# Altium footprint library Quatro_PcbLib.PcbLib: 46 footprints (part 3 of 3)
Each footprint in its own frame and in the unit in brackets; x right, y up, seen from the top. Pads: shape width x height; smd on the part's side, far side on the other; paste and mask are expansions set on the pad; w line width, h text height; cw(c..) or ccw(c..) is an arc to the next point about the centre after c.
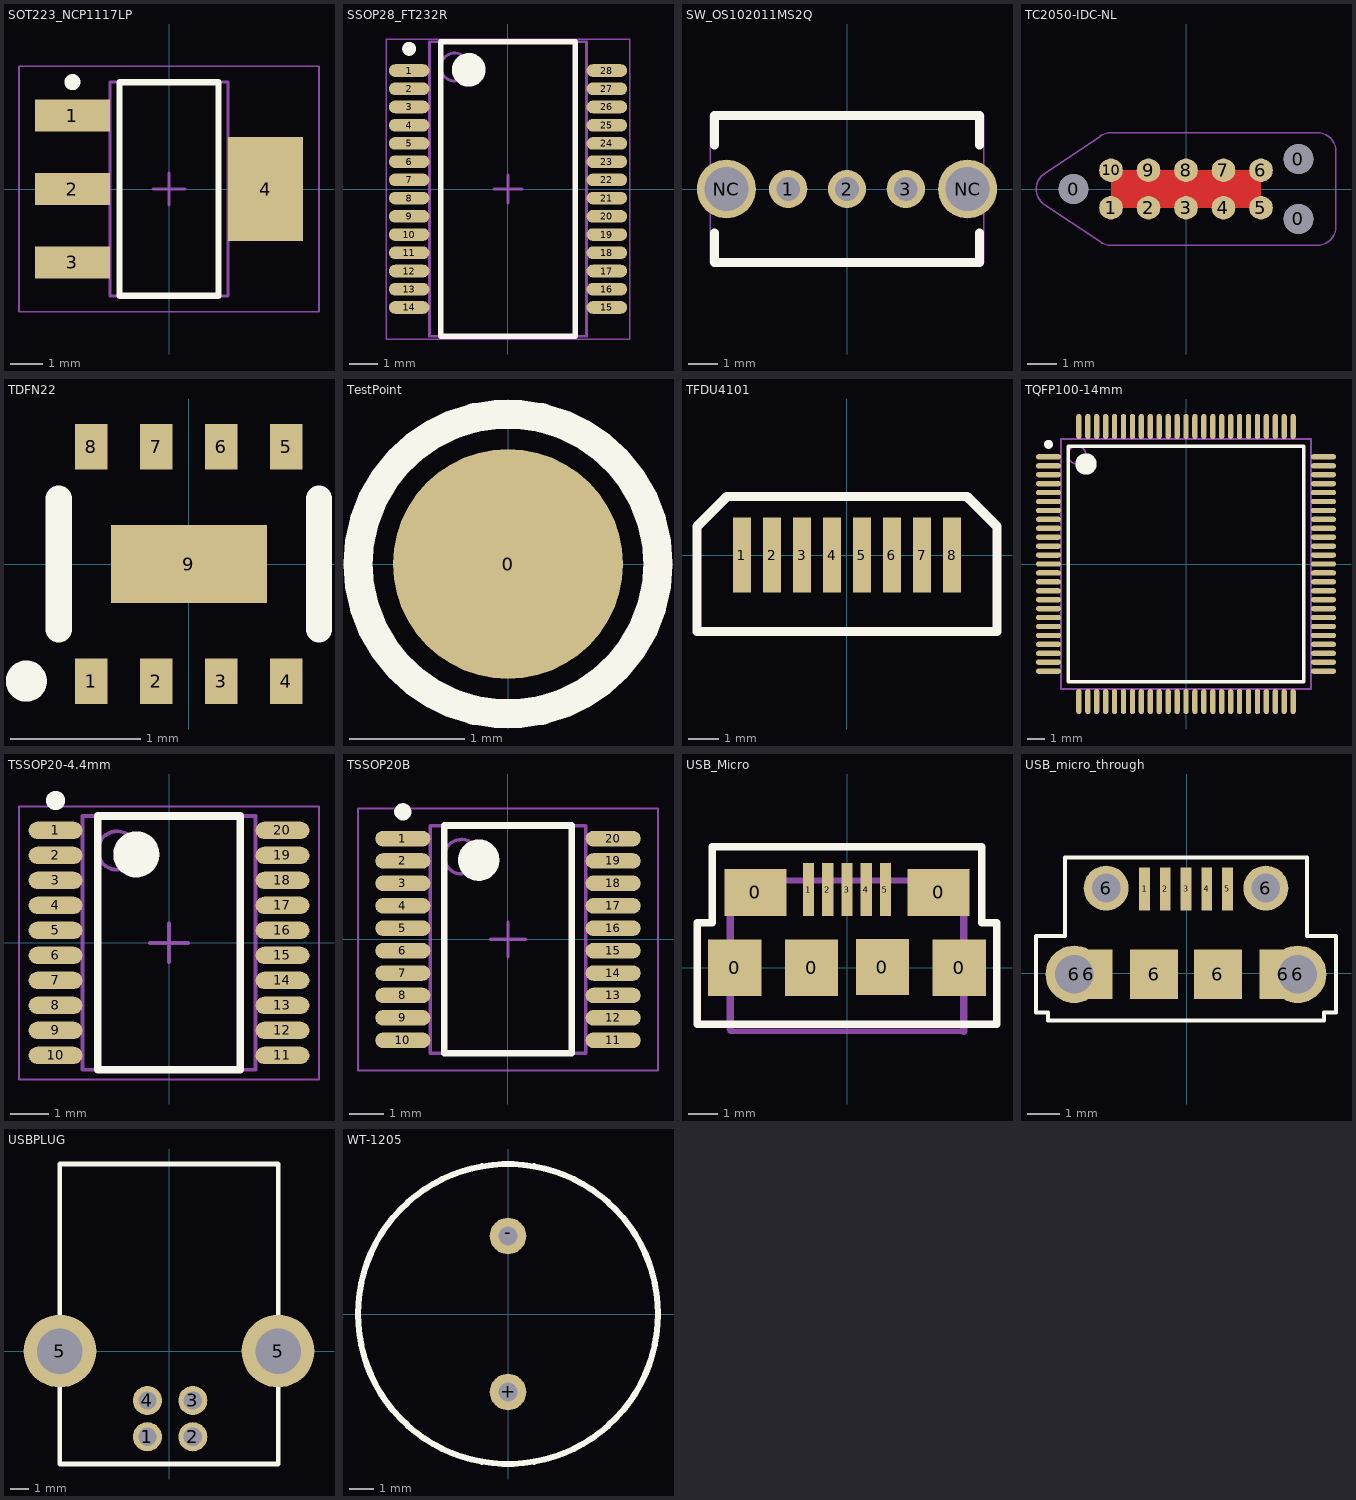
[diagram p2: the footprints below, top view; thin cyan lines are the x and y axes]

## SOT223_NCP1117LP [mm] "SOT223, 4-Leads, Body 6.50x7.00mm (avg), Pitch 2.30mm, IPC Low Density,NCP1117LP"
height 1.8
pads (4):
  rect 2.35x1 smd: 1(-3.025,2.3) 2(-3.025,0) 3(-3.025,-2.3)
  rect 2.35x3.25 smd: 4(3.025,0)
Top Overlay:
  circle w0.25: c-3.025,3.35 r0.125
  lines w0.2: -1.55,-3.35 1.55,-3.35 1.55,3.35 -1.55,3.35 -1.55,-3.35
Mechanical 13:
  lines w0.1: -1.85,-3.35 1.85,-3.35 1.85,3.35 -1.85,3.35 -1.85,-3.35
Mechanical 15:
  lines w0.05: -4.7,-3.85 4.7,-3.85 4.7,3.85 -4.7,3.85 -4.7,-3.85
  lines w0.1: -0.5,0 0.5,0 ; 0,-0.5 0,0.5
3D body "SOT223_NCP1117LP.step": height 1.8, standoff 0, extent -3.5,-3.35 3.5,3.35

## SSOP28_FT232R [mm] "SOP, 28-Leads, Body 10.20x5.30mm, Pitch 0.65mm, IPC High Density"
height 2
pads (28):
  oval 1.45x0.45 smd: 1(-3.525,4.225) 2(-3.525,3.575) 3(-3.525,2.925) 4(-3.525,2.275) 5(-3.525,1.625) 6(-3.525,0.975) 7(-3.525,0.325) 8(-3.525,-0.325) 9(-3.525,-0.975) 10(-3.525,-1.625) 11(-3.525,-2.275) 12(-3.525,-2.925) 13(-3.525,-3.575) 14(-3.525,-4.225) 15(3.525,-4.225) 16(3.525,-3.575) 17(3.525,-2.925) 18(3.525,-2.275) 19(3.525,-1.625) 20(3.525,-0.975) 21(3.525,-0.325) 22(3.525,0.325) 23(3.525,0.975) 24(3.525,1.625) 25(3.525,2.275) 26(3.525,2.925) 27(3.525,3.575) 28(3.525,4.225)
Top Overlay:
  circle w0.25: c-3.525,5 r0.125
  circle w0.6: c-1.4,4.25 r0.3
  lines w0.2: -2.4,-5.25 -2.4,5.25 2.4,5.25 2.4,-5.25 -2.4,-5.25
Mechanical 13:
  circle w0.1: c-1.9,4.35 r0.5
  lines w0.1: -2.8,-5.25 -2.8,5.25 2.8,5.25 2.8,-5.25 -2.8,-5.25
Mechanical 15:
  lines w0.05: -4.35,-5.35 -4.35,5.35 4.35,5.35 4.35,-5.35 -4.35,-5.35
  lines w0.1: -0.5,0 0.5,0 ; 0,-0.5 0,0.5
3D body "SSOP28_FT232R.step": height 2, standoff 0, extent -3.9,-5.25 3.9,5.25

## SW_OS102011MS2Q [mm]
pads (5):
  round 1.3 hole 0.8: 1(-2,0) 2(0,0) 3(2,0)
  round 2 hole 1.5: NC(-4.1,0) NC(4.1,0)
Top Overlay:
  lines w0.3: -4.5,-1.5 -4.5,-2.5 4.5,-2.5 4.5,-1.5 ; -4.5,1.5 -4.5,2.5 4.5,2.5 4.5,1.5
Mechanical 15:
  lines w0.05: -4.65,-2.5 -4.65,2.5 4.65,2.5 4.65,-2.5 -4.65,-2.5
3D body: height 8, standoff 0, extent 1,-1 3,1
3D body: height 4, standoff 0, extent -4.3,-2.15 4.275,2.125

## TC2050-IDC-NL [mm]
pads (13):
  round 1 hole 1 unplated paste-1.1: 0(-3.81,0) 0(3.81,-1.016) 0(3.81,1.016)
  round 0.8 smd paste-0.41: 1(-2.54,-0.635) 2(-1.27,-0.635) 3(0,-0.635) 4(1.27,-0.635) 5(2.54,-0.635) 6(2.54,0.635) 7(1.27,0.635) 8(0,0.635) 9(-1.27,0.635) 10(-2.54,0.635)
Top Layer:
  pour cut-out: -2.54,0.635 2.54,0.635 2.54,-0.635 -2.54,-0.635
Mechanical 15:
  lines w0.05: -4.826,-0.508 cw(c-4.445,0) -4.826,0.508 -2.921,1.778 cw(c-2.54,1.27) -2.54,1.905 4.445,1.905 cw(c4.445,1.27) 5.08,1.27 5.08,-1.27 cw(c4.445,-1.27) 4.445,-1.905 -2.54,-1.905 cw(c-2.54,-1.27) -2.921,-1.778 -4.826,-0.508

## TDFN22 [mm] "2mm x 2mm TDFN"
height 0.55
pads (9):
  rect 0.25x0.35 smd: 1(-0.75,-0.9) 2(-0.25,-0.9) 3(0.25,-0.9) 4(0.75,-0.9) 5(0.75,0.9) 6(0.25,0.9) 7(-0.25,0.9) 8(-0.75,0.9)
  rect 1.2x0.6 smd: 9(0,0)
Top Overlay:
  circle w0.203: c-1.25,-0.9 r0.056
  lines w0.203: -1,-0.5 -1,0.5 ; 1,-0.5 1,0.5
3D body: height 0.56, standoff 0.55, extent -0.775,-0.775 -0.575,-0.575
3D body: height 0.55, standoff 0, extent -1,-1 1,1

## TestPoint [mm] "Test Point"
pads (1):
  round 2 smd: 0(0,0)
Top Overlay:
  circle w0.254: c0,0 r1.304

## TFDU4101 [mm]
pads (8):
  rect 0.6x2.5 smd: 1(-3.5,0) 2(-2.5,0) 3(-1.5,0) 4(-0.5,0) 5(0.5,0) 6(1.5,0) 7(2.5,0) 8(3.5,0)
Top Overlay:
  lines w0.3: -5,-2.55 5,-2.55 5,0.95 4,1.95 -4,1.95 -5,0.95 -5,-2.55
3D body "84407TFDU4101.stp": height 4.09, standoff -0.01, extent -4.95,-3.75 4.95,0.95

## TQFP100-14mm [mm] "TSQFP, 100-Leads, Body 14,00x14,00mm, Pitch 0,50mm, IPC Medium Density"
height 1.2
pads (100):
  oval 1.4x0.3 smd: 1(-7.7,6) 2(-7.7,5.5) 3(-7.7,5) 4(-7.7,4.5) 5(-7.7,4) 6(-7.7,3.5) 7(-7.7,3) 8(-7.7,2.5) 9(-7.7,2) 10(-7.7,1.5) 11(-7.7,1) 12(-7.7,0.5) 13(-7.7,0) 14(-7.7,-0.5) 15(-7.7,-1) 16(-7.7,-1.5) 17(-7.7,-2) 18(-7.7,-2.5) 19(-7.7,-3) 20(-7.7,-3.5) 21(-7.7,-4) 22(-7.7,-4.5) 23(-7.7,-5) 24(-7.7,-5.5) 25(-7.7,-6) 51(7.7,-6) 52(7.7,-5.5) 53(7.7,-5) 54(7.7,-4.5) 55(7.7,-4) 56(7.7,-3.5) 57(7.7,-3) 58(7.7,-2.5) 59(7.7,-2) 60(7.7,-1.5) 61(7.7,-1) 62(7.7,-0.5) 63(7.7,0) 64(7.7,0.5) 65(7.7,1) 66(7.7,1.5) 67(7.7,2) 68(7.7,2.5) 69(7.7,3) 70(7.7,3.5) 71(7.7,4) 72(7.7,4.5) 73(7.7,5) 74(7.7,5.5) 75(7.7,6)
  oval 0.3x1.4 smd: 26(-6,-7.7) 27(-5.5,-7.7) 28(-5,-7.7) 29(-4.5,-7.7) 30(-4,-7.7) 31(-3.5,-7.7) 32(-3,-7.7) 33(-2.5,-7.7) 34(-2,-7.7) 35(-1.5,-7.7) 36(-1,-7.7) 37(-0.5,-7.7) 38(0,-7.7) 39(0.5,-7.7) 40(1,-7.7) 41(1.5,-7.7) 42(2,-7.7) 43(2.5,-7.7) 44(3,-7.7) 45(3.5,-7.7) 46(4,-7.7) 47(4.5,-7.7) 48(5,-7.7) 49(5.5,-7.7) 50(6,-7.7) 76(6,7.7) 77(5.5,7.7) 78(5,7.7) 79(4.5,7.7) 80(4,7.7) 81(3.5,7.7) 82(3,7.7) 83(2.5,7.7) 84(2,7.7) 85(1.5,7.7) 86(1,7.7) 87(0.5,7.7) 88(0,7.7) 89(-0.5,7.7) 90(-1,7.7) 91(-1.5,7.7) 92(-2,7.7) 93(-2.5,7.7) 94(-3,7.7) 95(-3.5,7.7) 96(-4,7.7) 97(-4.5,7.7) 98(-5,7.7) 99(-5.5,7.7) 100(-6,7.7)
Top Overlay:
  circle w0.6: c-5.6,5.6 r0.3
  circle w0.25: c-7.7,6.7 r0.125
  lines w0.2: -6.6,-6.6 6.6,-6.6 6.6,6.6 -6.6,6.6 -6.6,-6.6
Mechanical 13:
  circle w0.1: c-6.1,6.1 r0.5
  lines w0.1: -7,-7 7,-7 7,7 -7,7 -7,-7
3D body "TSQFP50P1600X1600X120-100N.step": height 1.2, standoff 0, extent -8,-8 8,8

## TSSOP20-4.4mm [mm] "TSOP, 20-Leads, Body 6.50x4.40mm, Pitch 0.65mm, IPC Medium Density"
height 1.2
pads (20):
  oval 1.4x0.45 smd: 1(-2.95,2.925) 2(-2.95,2.275) 3(-2.95,1.625) 4(-2.95,0.975) 5(-2.95,0.325) 6(-2.95,-0.325) 7(-2.95,-0.975) 8(-2.95,-1.625) 9(-2.95,-2.275) 10(-2.95,-2.925) 11(2.95,-2.925) 12(2.95,-2.275) 13(2.95,-1.625) 14(2.95,-0.975) 15(2.95,-0.325) 16(2.95,0.325) 17(2.95,0.975) 18(2.95,1.625) 19(2.95,2.275) 20(2.95,2.925)
Top Overlay:
  circle w0.6: c-0.85,2.3 r0.3
  circle w0.25: c-2.95,3.7 r0.125
  lines w0.2: -1.85,-3.3 1.85,-3.3 1.85,3.3 -1.85,3.3 -1.85,-3.3
Mechanical 13:
  circle w0.1: c-1.35,2.4 r0.5
  lines w0.1: -2.25,-3.3 2.25,-3.3 2.25,3.3 -2.25,3.3 -2.25,-3.3
Mechanical 15:
  lines w0.05: -3.9,-3.55 3.9,-3.55 3.9,3.55 -3.9,3.55 -3.9,-3.55
  lines w0.1: -0.5,0 0.5,0 ; 0,-0.5 0,0.5
3D body "TSOP65P640X120-20N.step": height 1.2, standoff 0, extent -3.2,-3.3 3.2,3.3

## TSSOP20B [mm] "TSOP, 20-Leads, Body 6,50x4,40mm, Pitch 0,65mm, IPC Low Density"
height 1.2
pads (20):
  oval 1.6x0.45 smd: 1(-3.05,2.925) 2(-3.05,2.275) 3(-3.05,1.625) 4(-3.05,0.975) 5(-3.05,0.325) 6(-3.05,-0.325) 7(-3.05,-0.975) 8(-3.05,-1.625) 9(-3.05,-2.275) 10(-3.05,-2.925) 11(3.05,-2.925) 12(3.05,-2.275) 13(3.05,-1.625) 14(3.05,-0.975) 15(3.05,-0.325) 16(3.05,0.325) 17(3.05,0.975) 18(3.05,1.625) 19(3.05,2.275) 20(3.05,2.925)
Top Overlay:
  circle w0.25: c-3.05,3.7 r0.125
  circle w0.6: c-0.85,2.3 r0.3
  lines w0.2: -1.85,-3.3 -1.85,3.3 1.85,3.3 1.85,-3.3 -1.85,-3.3
Mechanical 13:
  circle w0.1: c-1.35,2.4 r0.5
  lines w0.1: -2.25,-3.3 -2.25,3.3 2.25,3.3 2.25,-3.3 -2.25,-3.3
Mechanical 15:
  lines w0.05: -4.35,-3.8 -4.35,3.8 4.35,3.8 4.35,-3.8 -4.35,-3.8
  lines w0.1: -0.5,0 0.5,0 ; 0,-0.5 0,0.5
3D body "TSOP65P640X120-20M.step": height 1.2, standoff 0, extent -3.2,-3.3 3.2,3.3

## USB_Micro [mm]
pads (11):
  rect 1.8x1.9 smd: 0(-3.8,0) 0(-1.2,0) 0(1.2,0.025) 0(3.8,0)
  rect 2.1x1.6 smd: 0(-3.1,2.55) 0(3.1,2.55)
  rect 0.381x1.8 smd: 1(-1.3,2.65) 2(-0.65,2.65) 3(0,2.65) 4(0.65,2.65) 5(1.3,2.65)
Top Overlay:
  lines w0.254: -5.08,-1.905 -5.08,1.524 -4.572,1.524 -4.572,4.1 4.572,4.1 4.572,1.524 5.08,1.524 5.08,-1.905 -5.08,-1.905
Mechanical 15:
  lines w0.2: -3.95,-2.15 3.95,-2.15 ; -3.95,2.95 3.95,2.95
  lines w0.254: -3.95,-2.061 -3.95,2.95 ; 3.95,-2.15 3.95,2.95
3D body: height 2.8, standoff 0, extent -3.4,-2.2 3.4,2.9

## USB_micro_through [mm]
pads (13):
  rect 0.33x1.35 smd: 1(-1.325,2.65) 2(-0.675,2.65) 3(-0.025,2.65) 4(0.625,2.65) 5(1.275,2.65)
  round 1.8 hole 1.2: 6(-3.525,-0.025) 6(3.475,-0.025)
  rect 1.5x1.55 smd: 6(-3.075,-0.025) 6(-1.025,-0.025) 6(0.975,-0.025) 6(3.025,-0.025)
  round 1.408 hole 0.9: 6(-2.525,2.675) 6(2.475,2.675)
Top Overlay:
  lines w0.127: -3.81,1.168 -4.724,1.168 -4.724,-1.219 -4.343,-1.219 -4.343,-1.473 4.293,-1.473 4.293,-1.219 4.674,-1.219 4.674,1.168 3.759,1.168 3.759,3.632 -3.81,3.632 -3.81,1.194
3D body "10118194c.stp": height 2.74, standoff -0.53, extent -4.037,-2.688 4.013,2.892

## USBPLUG [mm]
height 1.3
pads (6):
  round 1.6 hole 1: 1(-1.19,-4.71) 2(1.31,-4.71) 3(1.31,-2.71) 4(-1.19,-2.71)
  round 4 hole 2.5: 5(-6,0) 5(6,0)
Top Overlay:
  lines w0.254: -6,-6.208 6,-6.208 6,10.292 -6,10.292 -6,-6.208
3D body: height 0.25, standoff 0, extent -11.207,-4.341 -11.207,-4.341
3D body "Download_STP_61400416121 (rev1).stp": height 11.06, standoff -3.79, extent -7.465,-6.208 7.504,10.292

## WT-1205 [mm] "WT-1205 Buzzer"
pads (2):
  round 1.524 hole 0.8: +(0,-3.25) -(0,3.25)
Top Overlay:
  circle w0.254: c0,0 r6.25
3D body: height 0.25, standoff 0, extent 0,0 0,0
3D body "WT-1205.step": height 9.5, standoff -3.8, extent -6,-6.01 6,6